# Altium integrated library Infineon_Microcontroller.IntLib: 721 symbols (part 22 of 66)
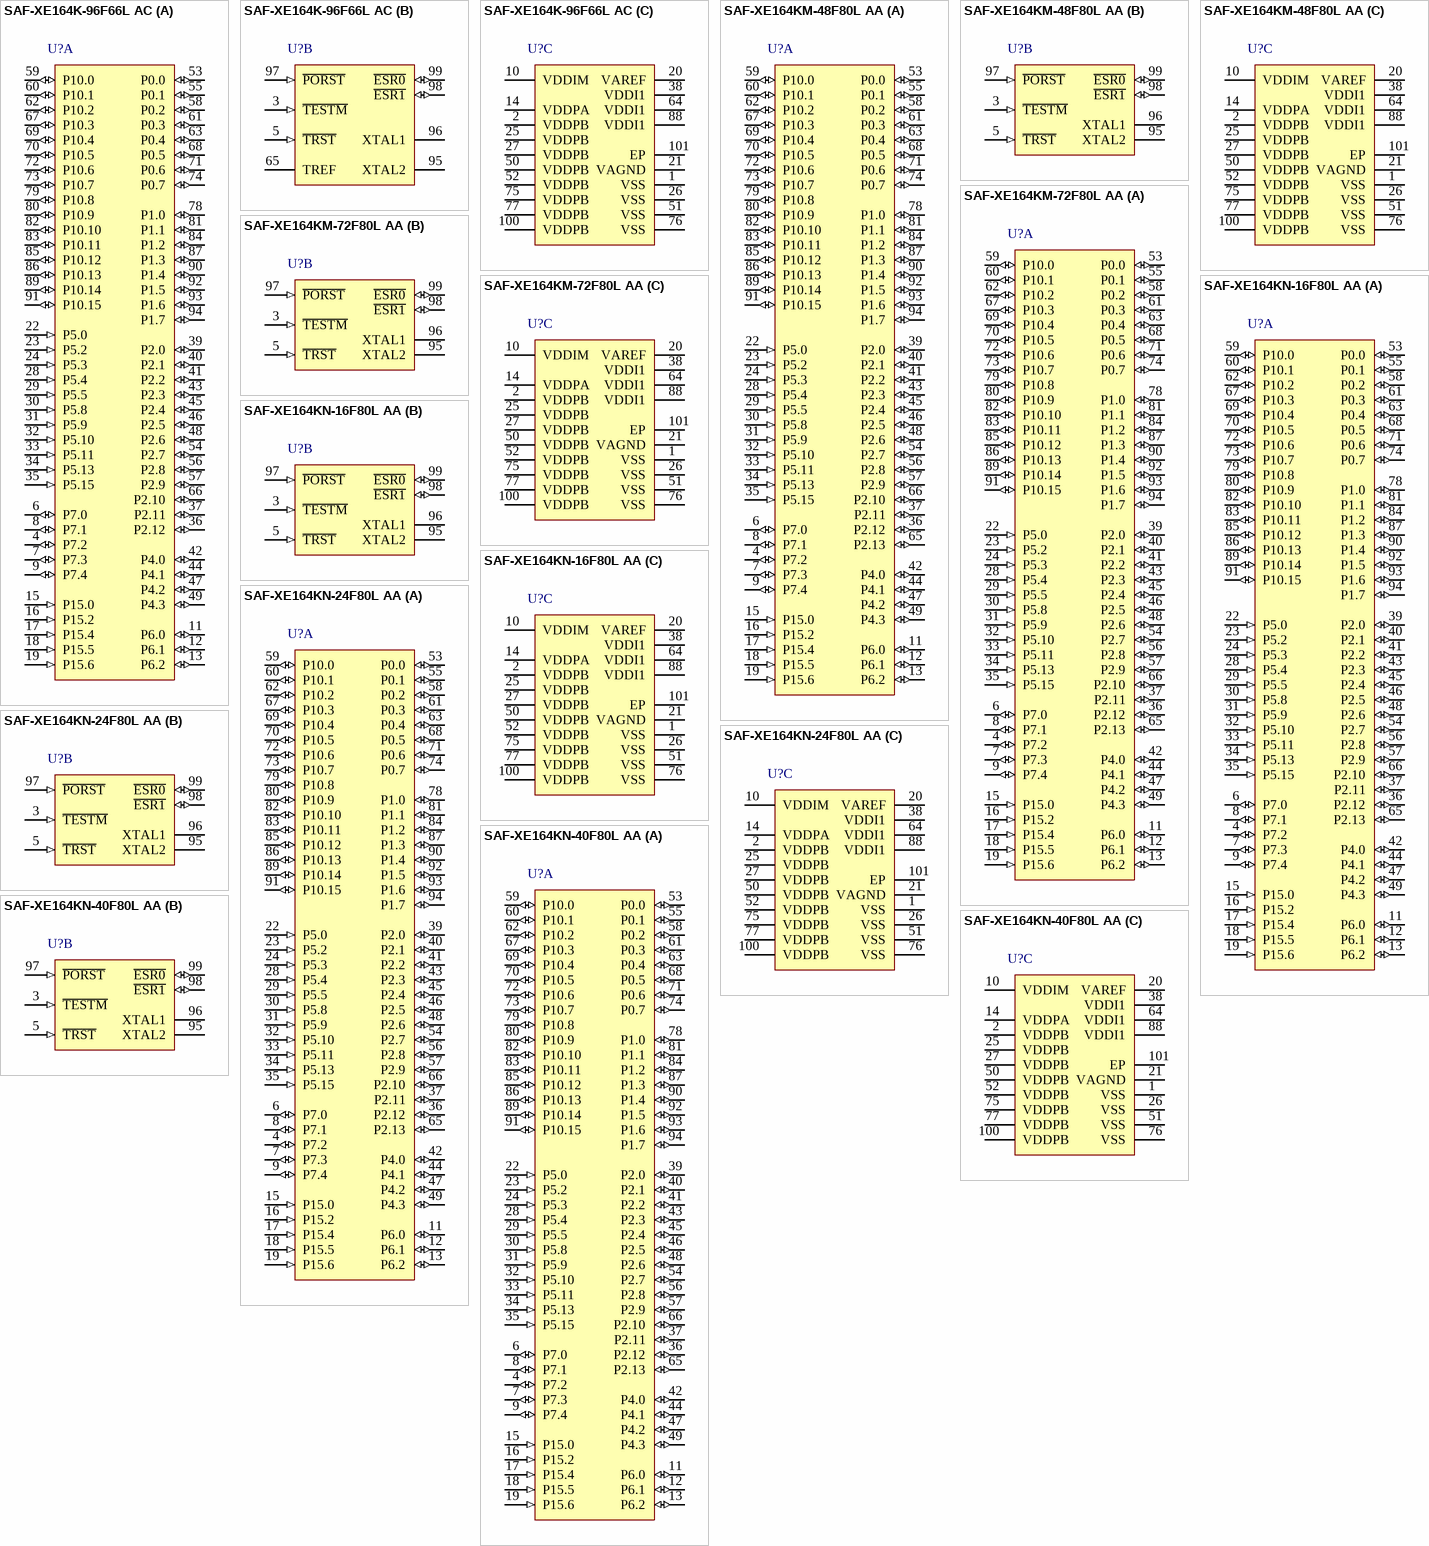
[diagram p139: symbols SAF-XE164K-96F66L AC to SAF-XE164KN-40F80L AA]

## SAF-XE164KN-24F80L AA
designator U?
80 MHz XE166 MCU with 192 KByte Program Memory, 26 KByte SRAM, -40 to 85 degC, PG-LQFP-100-8, Green; Manufacturer: Infineon; PartNumber: SAF-XE164KN-24F80L AA; A / D input lines (incl. FADC): 6+5; CAN Nodes: 0; Green: TRUE; Max Clock Frequency: 80 MHz; Packing: Reel; DatasheetVersion: Rev. 1.4; PackageVersion: Rev. 11, 02/2013; PackageReference: PG-LQFP-100-8; PackageDescription: 100-Pin Plastic (Green) Low Profile Quad Flat Package, 14 x 14 mm Body, 0.5 mm Pitch; Supplier 1: Digi-Key; Supplier Part Number 1: SAF-XE164KN-24F80L AA-ND; Halogen-free: TRUE; Program Memory: 192 KByte; SRAM (incl. Cache): 26 KByte; Mounting Technology: Surface Mount; ComponentLink1Description: Manufacturer URL; ComponentLink1URL: http://www.infineon.com/; ComponentLink2Description: Datasheet; ComponentLink2URL: http://www.infineon.com/dgdl/xe164xn_ds_v1.3_2011_07.pdf?folderId=db3a3043156fd5730115b3a665650d23&fileId=db3a30432313ff5e01235220469362ff; ComponentLink3Description: Package Specification; ComponentLink3URL: http://www.infineon.com/dgdl/xe164xn_ds_v1.4_2013_02.pdf?folderId=db3a3043156fd5730115b3a665650d23&fileId=db3a30432313ff5e01235220469362ff&sId=db3a30443f763e1b013f7661a4e70048
footprint INF-PG-LQFP-100-8-5200X5200TP_N (QFP, 100-Leads, Body 14x14mm, Pitch 0.5mm, Thermal Pad 5.2x5.2mm, IPC Medium Density)
footprint INF-PG-LQFP-100-8-5200X5200TP_L (QFP, 100-Leads, Body 14x14mm, Pitch 0.5mm, Thermal Pad 5.2x5.2mm, IPC High Density)
footprint INF-PG-LQFP-100-8-5200X5200TP_M (QFP, 100-Leads, Body 14x14mm, Pitch 0.5mm, Thermal Pad 5.2x5.2mm, IPC Low Density)
part A pins: 4 P7.2 (io), 6 P7.0 (io), 7 P7.3 (io), 8 P7.1 (io), 9 P7.4 (io), 11 P6.0 (io), 12 P6.1 (io), 13 P6.2 (io), 15 P15.0 (in), 16 P15.2 (in), 17 P15.4 (in), 18 P15.5 (in), 19 P15.6 (in), 22 P5.0 (in), 23 P5.2 (in), 24 P5.3 (in), 28 P5.4 (in), 29 P5.5 (in), 30 P5.8 (in), 31 P5.9 (in), 32 P5.10 (in), 33 P5.11 (in), 34 P5.13 (in), 35 P5.15 (in), 36 P2.12 (io), 37 P2.11 (io), 39 P2.0 (io), 40 P2.1 (io), 41 P2.2 (io), 42 P4.0 (io), 43 P2.3 (io), 44 P4.1 (io), 45 P2.4 (io), 46 P2.5 (io), 47 P4.2 (io), 48 P2.6 (io), 49 P4.3 (io), 53 P0.0 (io), 54 P2.7 (io), 55 P0.1 (io), 56 P2.8 (io), 57 P2.9 (io), 58 P0.2 (io), 59 P10.0 (io), 60 P10.1 (io), 61 P0.3 (io), 62 P10.2 (io), 63 P0.4 (io), 65 P2.13 (io), 66 P2.10 (io), 67 P10.3 (io), 68 P0.5 (io), 69 P10.4 (io), 70 P10.5 (io), 71 P0.6 (io), 72 P10.6 (io), 73 P10.7 (io), 74 P0.7 (io), 78 P1.0 (io), 79 P10.8 (io), 80 P10.9 (io), 81 P1.1 (io), 82 P10.10 (io), 83 P10.11 (io), 84 P1.2 (io), 85 P10.12 (io), 86 P10.13 (io), 87 P1.3 (io), 89 P10.14 (io), 90 P1.4 (io), 91 P10.15 (io), 92 P1.5 (io), 93 P1.6 (io), 94 P1.7 (io)
part B pins: 3 ~{TESTM} (in) "Testmode Enable", 5 ~{TRST} (in) "Test-System Reset Input", 95 XTAL2 "Crystal Oscillator Amplifier Output.", 96 XTAL1, 97 ~{PORST} (in) "Power On Reset Input.", 98 ~{ESR1} (io), 99 ~{ESR0} (io)
part C pins: 1 VSS (power) "Digital Ground.", 2 VDDPB (power) "Digital Pad Supply Voltage for Domain B.", 10 VDDIM (power) "Digital Core Supply Voltage for Domain M", 14 VDDPA (power) "Digital Pad Supply Voltage for Domain A.", 20 VAREF (power) "Reference Voltage for A/D Converters ADC0/1", 21 VAGND (power) "Reference Ground for A/D Converters ADC0/1", 25 VDDPB (power) "Digital Pad Supply Voltage for Domain B.", 26 VSS (power) "Digital Ground.", 27 VDDPB (power) "Digital Pad Supply Voltage for Domain B.", 38 VDDI1 (power) "Digital Core Supply Voltage for Domain 1", 50 VDDPB (power) "Digital Pad Supply Voltage for Domain B.", 51 VSS (power) "Digital Ground.", 52 VDDPB (power) "Digital Pad Supply Voltage for Domain B.", 64 VDDI1 (power) "Digital Core Supply Voltage for Domain 1", 75 VDDPB (power) "Digital Pad Supply Voltage for Domain B.", 76 VSS (power) "Digital Ground.", 77 VDDPB (power) "Digital Pad Supply Voltage for Domain B.", 88 VDDI1 (power) "Digital Core Supply Voltage for Domain 1", 100 VDDPB (power) "Digital Pad Supply Voltage for Domain B.", 101 EP (power)

## SAF-XE164KN-40F80L AA
designator U?
80 MHz XE166 MCU with 320 KByte Program Memory, 34 KByte SRAM, -40 to 85 degC, PG-LQFP-100-8, Green; Manufacturer: Infineon; PartNumber: SAF-XE164KN-40F80L AA; A / D input lines (incl. FADC): 6+5; CAN Nodes: 0; Green: TRUE; Max Clock Frequency: 80 MHz; Packing: Reel; DatasheetVersion: Rev. 1.4; PackageVersion: Rev. 11, 02/2013; PackageReference: PG-LQFP-100-8; PackageDescription: 100-Pin Plastic (Green) Low Profile Quad Flat Package, 14 x 14 mm Body, 0.5 mm Pitch; Supplier 1: Digi-Key; Supplier Part Number 1: SAF-XE164KN-40F80L AA-ND; Halogen-free: TRUE; Program Memory: 320 KByte; SRAM (incl. Cache): 34 KByte; Mounting Technology: Surface Mount; ComponentLink1Description: Manufacturer URL; ComponentLink1URL: http://www.infineon.com/; ComponentLink2Description: Datasheet; ComponentLink2URL: http://www.infineon.com/dgdl/xe164xn_ds_v1.3_2011_07.pdf?folderId=db3a3043156fd5730115b3a665650d23&fileId=db3a30432313ff5e01235220469362ff; ComponentLink3Description: Package Specification; ComponentLink3URL: http://www.infineon.com/dgdl/xe164xn_ds_v1.4_2013_02.pdf?folderId=db3a3043156fd5730115b3a665650d23&fileId=db3a30432313ff5e01235220469362ff&sId=db3a30443f763e1b013f7661a4e70048
footprint INF-PG-LQFP-100-8-5200X5200TP_N (QFP, 100-Leads, Body 14x14mm, Pitch 0.5mm, Thermal Pad 5.2x5.2mm, IPC Medium Density)
footprint INF-PG-LQFP-100-8-5200X5200TP_L (QFP, 100-Leads, Body 14x14mm, Pitch 0.5mm, Thermal Pad 5.2x5.2mm, IPC High Density)
footprint INF-PG-LQFP-100-8-5200X5200TP_M (QFP, 100-Leads, Body 14x14mm, Pitch 0.5mm, Thermal Pad 5.2x5.2mm, IPC Low Density)
part A pins: 4 P7.2 (io), 6 P7.0 (io), 7 P7.3 (io), 8 P7.1 (io), 9 P7.4 (io), 11 P6.0 (io), 12 P6.1 (io), 13 P6.2 (io), 15 P15.0 (in), 16 P15.2 (in), 17 P15.4 (in), 18 P15.5 (in), 19 P15.6 (in), 22 P5.0 (in), 23 P5.2 (in), 24 P5.3 (in), 28 P5.4 (in), 29 P5.5 (in), 30 P5.8 (in), 31 P5.9 (in), 32 P5.10 (in), 33 P5.11 (in), 34 P5.13 (in), 35 P5.15 (in), 36 P2.12 (io), 37 P2.11 (io), 39 P2.0 (io), 40 P2.1 (io), 41 P2.2 (io), 42 P4.0 (io), 43 P2.3 (io), 44 P4.1 (io), 45 P2.4 (io), 46 P2.5 (io), 47 P4.2 (io), 48 P2.6 (io), 49 P4.3 (io), 53 P0.0 (io), 54 P2.7 (io), 55 P0.1 (io), 56 P2.8 (io), 57 P2.9 (io), 58 P0.2 (io), 59 P10.0 (io), 60 P10.1 (io), 61 P0.3 (io), 62 P10.2 (io), 63 P0.4 (io), 65 P2.13 (io), 66 P2.10 (io), 67 P10.3 (io), 68 P0.5 (io), 69 P10.4 (io), 70 P10.5 (io), 71 P0.6 (io), 72 P10.6 (io), 73 P10.7 (io), 74 P0.7 (io), 78 P1.0 (io), 79 P10.8 (io), 80 P10.9 (io), 81 P1.1 (io), 82 P10.10 (io), 83 P10.11 (io), 84 P1.2 (io), 85 P10.12 (io), 86 P10.13 (io), 87 P1.3 (io), 89 P10.14 (io), 90 P1.4 (io), 91 P10.15 (io), 92 P1.5 (io), 93 P1.6 (io), 94 P1.7 (io)
part B pins: 3 ~{TESTM} (in) "Testmode Enable", 5 ~{TRST} (in) "Test-System Reset Input", 95 XTAL2 "Crystal Oscillator Amplifier Output.", 96 XTAL1, 97 ~{PORST} (in) "Power On Reset Input.", 98 ~{ESR1} (io), 99 ~{ESR0} (io)
part C pins: 1 VSS (power) "Digital Ground.", 2 VDDPB (power) "Digital Pad Supply Voltage for Domain B.", 10 VDDIM (power) "Digital Core Supply Voltage for Domain M", 14 VDDPA (power) "Digital Pad Supply Voltage for Domain A.", 20 VAREF (power) "Reference Voltage for A/D Converters ADC0/1", 21 VAGND (power) "Reference Ground for A/D Converters ADC0/1", 25 VDDPB (power) "Digital Pad Supply Voltage for Domain B.", 26 VSS (power) "Digital Ground.", 27 VDDPB (power) "Digital Pad Supply Voltage for Domain B.", 38 VDDI1 (power) "Digital Core Supply Voltage for Domain 1", 50 VDDPB (power) "Digital Pad Supply Voltage for Domain B.", 51 VSS (power) "Digital Ground.", 52 VDDPB (power) "Digital Pad Supply Voltage for Domain B.", 64 VDDI1 (power) "Digital Core Supply Voltage for Domain 1", 75 VDDPB (power) "Digital Pad Supply Voltage for Domain B.", 76 VSS (power) "Digital Ground.", 77 VDDPB (power) "Digital Pad Supply Voltage for Domain B.", 88 VDDI1 (power) "Digital Core Supply Voltage for Domain 1", 100 VDDPB (power) "Digital Pad Supply Voltage for Domain B.", 101 EP (power)

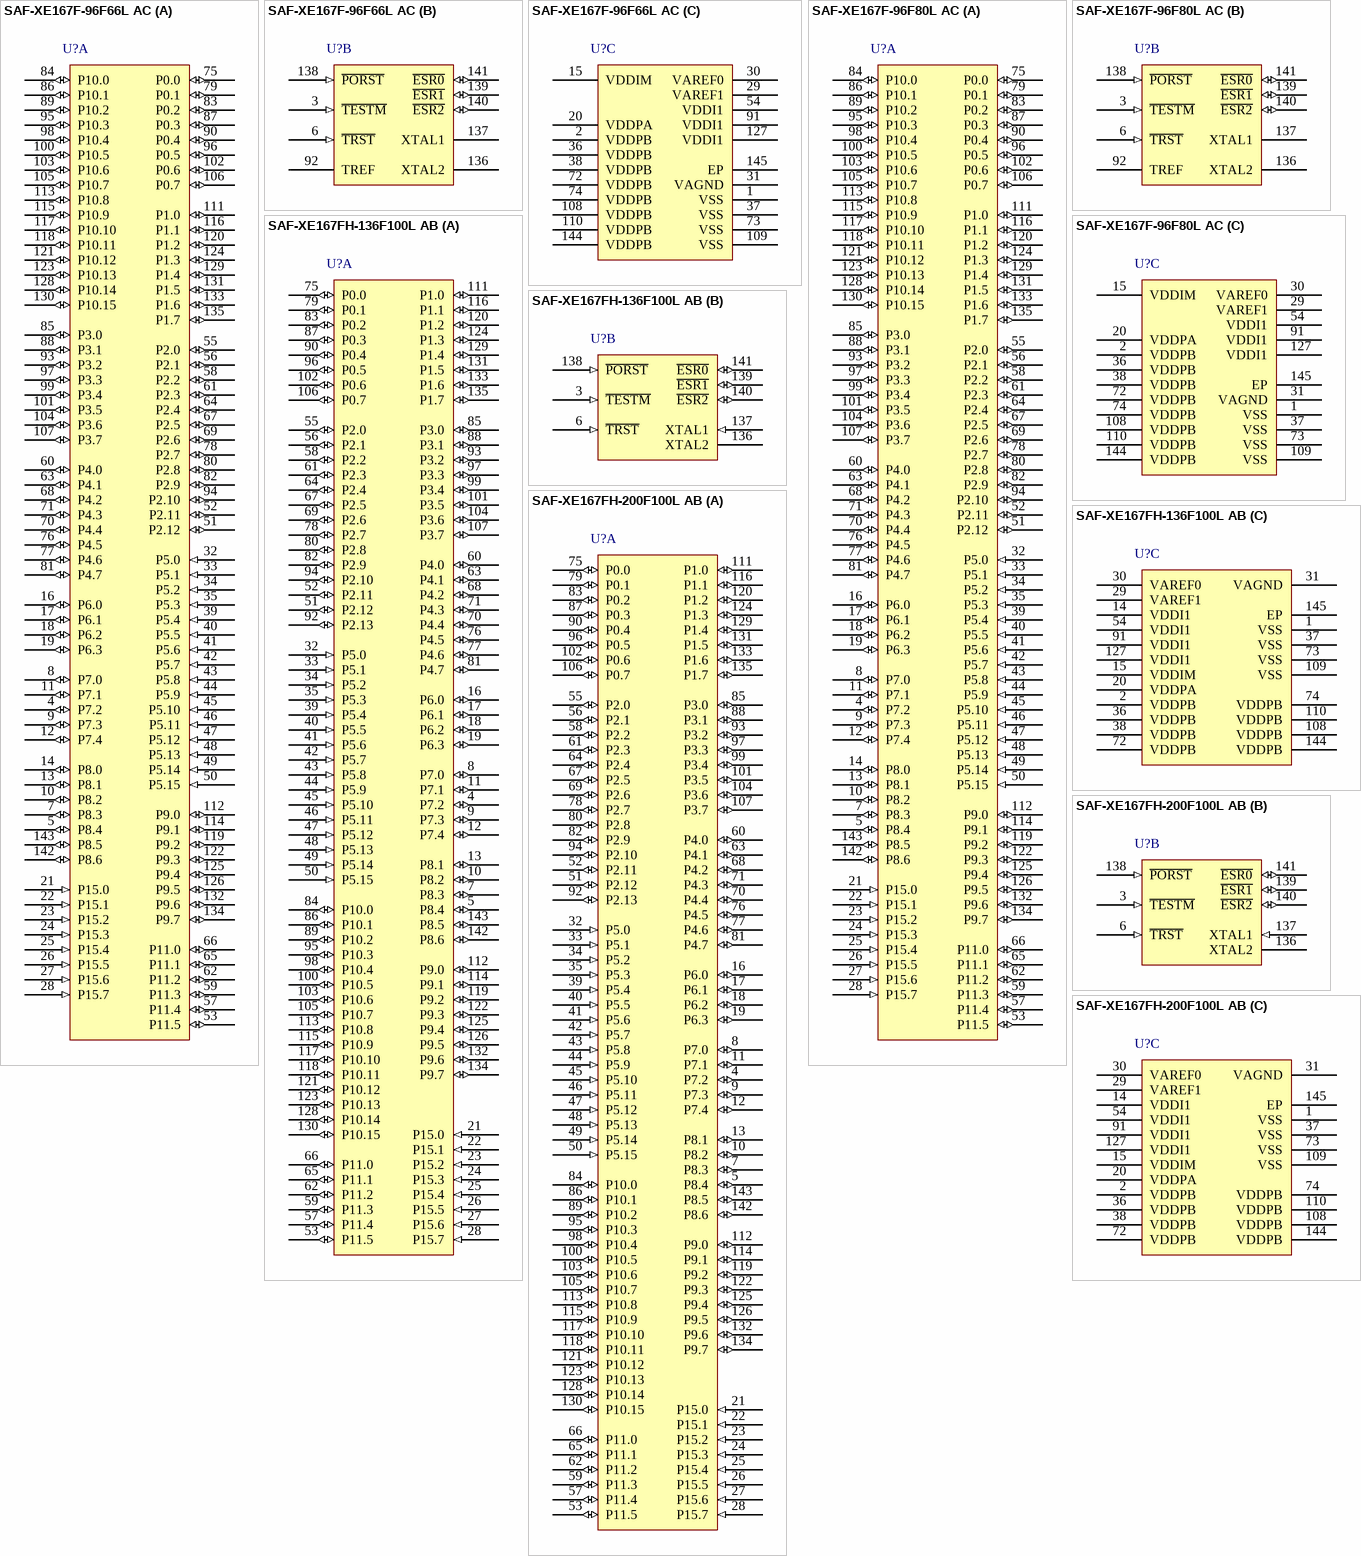
[diagram p35: symbols SAF-XE167F-96F66L AC to SAF-XE167FH-200F100L AB]

## SAF-XE167F-96F66L AC
designator U?
66 MHz XE166 MCU with 768 KByte Program Memory, 82 KByte SRAM, 3 V, 5.5 V, -40 to 85 degC, PG-LQFP-144, Reel, Green; Manufacturer: Infineon; PartNumber: SAF-XE167F-96F66L AC; A / D input lines (incl. FADC): 24; CAN Nodes: 5; Comment/Add. Features: Functional Packing; DatasheetVersion: Rev. 2.1; PackageVersion: V2.1, 08/2008; PackageReference: PG-LQFP-144-4; PackageDescription: 144-Pin Plastic Green Thin Quad Flat Package, Body 20 x 20 mm, Pitch 0.5 mm; Supplier 1: Mouser; Supplier Part Number 1: 726-SAFXE167F96F66LA; Supplier 2: Newark; Supplier Part Number 2: 47W3702; Supplier 3: Farnell; Supplier Part Number 3: 2212042; Supplier 4: Digi-Key; Supplier Part Number 4: SAF-XE167F-96F66LACIN-ND; Mounting Technology: Surface Mount; ComponentLink1Description: Manufacturer URL; ComponentLink1URL: http://www.infineon.com/; ComponentLink2Description: Datasheet; ComponentLink2URL: http://www.infineon.com/dgdl/xe167x_ds_v2.1_2008_08.pdf?folderId=db3a3043156fd5730115b3a665650d23&fileId=db3a3043156fd5730116100ef1b41b52; ComponentLink3Description: Package Specification; ComponentLink3URL: http://www.infineon.com/dgdl/xc228x_ds_v2.1_2008_08.pdf?folderId=db3a304412b407950112b408e8c90004&fileId=db3a304412b407950112b40937b40162&sId=db3a30433d956bc3013d9bbb42cd14dc
footprint INF-PG-LQFP-144-4_N (QFP, 144-Leads, Body 20x20mm, Pitch 0.5mm, Thermal Pad 6.5x6.5mm, IPC Medium Density)
footprint INF-PG-LQFP-144-4_L (QFP, 144-Leads, Body 20x20mm, Pitch 0.5mm, Thermal Pad 6.5x6.5mm, IPC High Density)
footprint INF-PG-LQFP-144-4_M (QFP, 144-Leads, Body 20x20mm, Pitch 0.5mm, Thermal Pad 6.5x6.5mm, IPC Low Density)
part A pins: 4 P7.2 (io), 5 P8.4 (io), 7 P8.3 (io), 8 P7.0 (io), 9 P7.3 (io), 10 P8.2 (io), 11 P7.1 (io), 12 P7.4 (io), 13 P8.1 (io), 14 P8.0 (io), 16 P6.0 (io), 17 P6.1 (io), 18 P6.2 (io), 19 P6.3 (io), 21 P15.0 (in), 22 P15.1 (in), 23 P15.2 (in), 24 P15.3 (in), 25 P15.4 (in), 26 P15.5 (in), 27 P15.6 (in), 28 P15.7 (in), 32 P5.0 (in), 33 P5.1 (in), 34 P5.2 (in), 35 P5.3 (in), 39 P5.4 (in), 40 P5.5 (in), 41 P5.6 (in), 42 P5.7 (in), 43 P5.8 (in), 44 P5.9 (in), 45 P5.10 (in), 46 P5.11 (in), 47 P5.12 (in), 48 P5.13 (in), 49 P5.14 (in), 50 P5.15 (in), 51 P2.12 (io), 52 P2.11 (io), 53 P11.5 (io) "Bit 5 of Port 11, General Purpose Input/Output", 55 P2.0 (io), 56 P2.1 (io), 57 P11.4 (io) "Bit 4 of Port 11, General Purpose Input/Output", 58 P2.2 (io), 59 P11.3 (io) "Bit 3 of Port 11, General Purpose Input/Output", 60 P4.0 (io), 61 P2.3 (io), 62 P11.2 (io), 63 P4.1 (io), 64 P2.4 (io), 65 P11.1 (io), 66 P11.0 (io), 67 P2.5 (io), 68 P4.2 (io), 69 P2.6 (io), 70 P4.4 (io), 71 P4.3 (io), 75 P0.0 (io), 76 P4.5 (io), 77 P4.6 (io), 78 P2.7 (io), 79 P0.1 (io), 80 P2.8 (io), 81 P4.7 (io), 82 P2.9 (io), 83 P0.2 (io), 84 P10.0 (io), 85 P3.0 (io), 86 P10.1 (io), 87 P0.3 (io), 88 P3.1 (io), 89 P10.2 (io), 90 P0.4 (io), 93 P3.2 (io), 94 P2.10 (io), 95 P10.3 (io), 96 P0.5 (io), 97 P3.3 (io), 98 P10.4 (io), 99 P3.4 (io), 100 P10.5 (io), 101 P3.5 (io), 102 P0.6 (io), 103 P10.6 (io), 104 P3.6 (io), 105 P10.7 (io), 106 P0.7 (io), 107 P3.7 (io), 111 P1.0 (io), 112 P9.0 (io), 113 P10.8 (io), 114 P9.1 (io), 115 P10.9 (io), 116 P1.1 (io), 117 P10.10 (io), 118 P10.11 (io), 119 P9.2 (io), 120 P1.2 (io), 121 P10.12 (io), 122 P9.3 (io), 123 P10.13 (io), 124 P1.3 (io), 125 P9.4 (io), 126 P9.5 (io), 128 P10.14 (io), 129 P1.4 (io), 130 P10.15 (io), 131 P1.5 (io), 132 P9.6 (io), 133 P1.6 (io), 134 P9.7 (io), 135 P1.7 (io), 142 P8.6 (io), 143 P8.5 (io)
part B pins: 3 ~{TESTM} (in) "Testmode Enable", 6 ~{TRST} (in) "Test-System Reset Input", 92 TREF "Control Pin for Core Voltage Generation", 136 XTAL2 "Crystal Oscillator Amplifier Output", 137 XTAL1 "Crystal Oscillator Amplifier Input", 138 ~{PORST} (in) "Power On Reset Input", 139 ~{ESR1} (io), 140 ~{ESR2} (io), 141 ~{ESR0} (io)
part C pins: 1 VSS (power) "Digital Ground", 2 VDDPB (power) "Digital Pad Supply Voltage for Domain B", 15 VDDIM (power) "Digital Core Supply Voltage for Domain M", 20 VDDPA (power) "Digital Pad Supply Voltage for Domain A", 29 VAREF1 (power) "Reference Voltage for A/D Converter ADC1", 30 VAREF0 (power) "Reference Voltage for A/D Converter ADC0", 31 VAGND (power) "Reference Ground for A/D Converters ADC0/1", 36 VDDPB (power) "Digital Pad Supply Voltage for Domain B", 37 VSS (power) "Digital Ground", 38 VDDPB (power) "Digital Pad Supply Voltage for Domain B", 54 VDDI1 (power) "Digital Core Supply Voltage for Domain 1", 72 VDDPB (power) "Digital Pad Supply Voltage for Domain B", 73 VSS (power) "Digital Ground", 74 VDDPB (power) "Digital Pad Supply Voltage for Domain B", 91 VDDI1 (power) "Digital Core Supply Voltage for Domain 1", 108 VDDPB (power) "Digital Pad Supply Voltage for Domain B", 109 VSS (power) "Digital Ground", 110 VDDPB (power) "Digital Pad Supply Voltage for Domain B", 127 VDDI1 (power) "Digital Core Supply Voltage for Domain 1", 144 VDDPB (power) "Digital Pad Supply Voltage for Domain B", 145 EP (power)

## SAF-XE167F-96F80L AC
designator U?
80 MHz XE166 MCU with 768 KByte Program Memory, 82 KByte SRAM, 3 V, 5.5 V, -40 to 85 degC, PG-LQFP-144, Reel, Green; Manufacturer: Infineon; PartNumber: SAF-XE167F-96F80L AC; A / D input lines (incl. FADC): 24; CAN Nodes: 5; Comment/Add. Features: Functional Packing; DatasheetVersion: Rev. 2.1; PackageVersion: V2.1, 08/2008; PackageReference: PG-LQFP-144-4; PackageDescription: 144-Pin Plastic Green Thin Quad Flat Package, Body 20 x 20 mm, Pitch 0.5 mm; Supplier 1: Mouser; Supplier Part Number 1: 726-SAFXE167F96F80LA; Supplier 2: Digi-Key; Supplier Part Number 2: SAF-XE167F-96F80L AC-ND; Mounting Technology: Surface Mount; ComponentLink1Description: Manufacturer URL; ComponentLink1URL: http://www.infineon.com/; ComponentLink2Description: Datasheet; ComponentLink2URL: http://www.infineon.com/dgdl/xe167x_ds_v2.1_2008_08.pdf?folderId=db3a3043156fd5730115b3a665650d23&fileId=db3a3043156fd5730116100ef1b41b52; ComponentLink3Description: Package Specification; ComponentLink3URL: http://www.infineon.com/dgdl/xc228x_ds_v2.1_2008_08.pdf?folderId=db3a304412b407950112b408e8c90004&fileId=db3a304412b407950112b40937b40162&sId=db3a30433d956bc3013d9bbb42cd14dc
footprint INF-PG-LQFP-144-4_N (QFP, 144-Leads, Body 20x20mm, Pitch 0.5mm, Thermal Pad 6.5x6.5mm, IPC Medium Density)
footprint INF-PG-LQFP-144-4_L (QFP, 144-Leads, Body 20x20mm, Pitch 0.5mm, Thermal Pad 6.5x6.5mm, IPC High Density)
footprint INF-PG-LQFP-144-4_M (QFP, 144-Leads, Body 20x20mm, Pitch 0.5mm, Thermal Pad 6.5x6.5mm, IPC Low Density)
part A pins: 4 P7.2 (io), 5 P8.4 (io), 7 P8.3 (io), 8 P7.0 (io), 9 P7.3 (io), 10 P8.2 (io), 11 P7.1 (io), 12 P7.4 (io), 13 P8.1 (io), 14 P8.0 (io), 16 P6.0 (io), 17 P6.1 (io), 18 P6.2 (io), 19 P6.3 (io), 21 P15.0 (in), 22 P15.1 (in), 23 P15.2 (in), 24 P15.3 (in), 25 P15.4 (in), 26 P15.5 (in), 27 P15.6 (in), 28 P15.7 (in), 32 P5.0 (in), 33 P5.1 (in), 34 P5.2 (in), 35 P5.3 (in), 39 P5.4 (in), 40 P5.5 (in), 41 P5.6 (in), 42 P5.7 (in), 43 P5.8 (in), 44 P5.9 (in), 45 P5.10 (in), 46 P5.11 (in), 47 P5.12 (in), 48 P5.13 (in), 49 P5.14 (in), 50 P5.15 (in), 51 P2.12 (io), 52 P2.11 (io), 53 P11.5 (io) "Bit 5 of Port 11, General Purpose Input/Output", 55 P2.0 (io), 56 P2.1 (io), 57 P11.4 (io) "Bit 4 of Port 11, General Purpose Input/Output", 58 P2.2 (io), 59 P11.3 (io) "Bit 3 of Port 11, General Purpose Input/Output", 60 P4.0 (io), 61 P2.3 (io), 62 P11.2 (io), 63 P4.1 (io), 64 P2.4 (io), 65 P11.1 (io), 66 P11.0 (io), 67 P2.5 (io), 68 P4.2 (io), 69 P2.6 (io), 70 P4.4 (io), 71 P4.3 (io), 75 P0.0 (io), 76 P4.5 (io), 77 P4.6 (io), 78 P2.7 (io), 79 P0.1 (io), 80 P2.8 (io), 81 P4.7 (io), 82 P2.9 (io), 83 P0.2 (io), 84 P10.0 (io), 85 P3.0 (io), 86 P10.1 (io), 87 P0.3 (io), 88 P3.1 (io), 89 P10.2 (io), 90 P0.4 (io), 93 P3.2 (io), 94 P2.10 (io), 95 P10.3 (io), 96 P0.5 (io), 97 P3.3 (io), 98 P10.4 (io), 99 P3.4 (io), 100 P10.5 (io), 101 P3.5 (io), 102 P0.6 (io), 103 P10.6 (io), 104 P3.6 (io), 105 P10.7 (io), 106 P0.7 (io), 107 P3.7 (io), 111 P1.0 (io), 112 P9.0 (io), 113 P10.8 (io), 114 P9.1 (io), 115 P10.9 (io), 116 P1.1 (io), 117 P10.10 (io), 118 P10.11 (io), 119 P9.2 (io), 120 P1.2 (io), 121 P10.12 (io), 122 P9.3 (io), 123 P10.13 (io), 124 P1.3 (io), 125 P9.4 (io), 126 P9.5 (io), 128 P10.14 (io), 129 P1.4 (io), 130 P10.15 (io), 131 P1.5 (io), 132 P9.6 (io), 133 P1.6 (io), 134 P9.7 (io), 135 P1.7 (io), 142 P8.6 (io), 143 P8.5 (io)
part B pins: 3 ~{TESTM} (in) "Testmode Enable", 6 ~{TRST} (in) "Test-System Reset Input", 92 TREF "Control Pin for Core Voltage Generation", 136 XTAL2 "Crystal Oscillator Amplifier Output", 137 XTAL1 "Crystal Oscillator Amplifier Input", 138 ~{PORST} (in) "Power On Reset Input", 139 ~{ESR1} (io), 140 ~{ESR2} (io), 141 ~{ESR0} (io)
part C pins: 1 VSS (power) "Digital Ground", 2 VDDPB (power) "Digital Pad Supply Voltage for Domain B", 15 VDDIM (power) "Digital Core Supply Voltage for Domain M", 20 VDDPA (power) "Digital Pad Supply Voltage for Domain A", 29 VAREF1 (power) "Reference Voltage for A/D Converter ADC1", 30 VAREF0 (power) "Reference Voltage for A/D Converter ADC0", 31 VAGND (power) "Reference Ground for A/D Converters ADC0/1", 36 VDDPB (power) "Digital Pad Supply Voltage for Domain B", 37 VSS (power) "Digital Ground", 38 VDDPB (power) "Digital Pad Supply Voltage for Domain B", 54 VDDI1 (power) "Digital Core Supply Voltage for Domain 1", 72 VDDPB (power) "Digital Pad Supply Voltage for Domain B", 73 VSS (power) "Digital Ground", 74 VDDPB (power) "Digital Pad Supply Voltage for Domain B", 91 VDDI1 (power) "Digital Core Supply Voltage for Domain 1", 108 VDDPB (power) "Digital Pad Supply Voltage for Domain B", 109 VSS (power) "Digital Ground", 110 VDDPB (power) "Digital Pad Supply Voltage for Domain B", 127 VDDI1 (power) "Digital Core Supply Voltage for Domain 1", 144 VDDPB (power) "Digital Pad Supply Voltage for Domain B", 145 EP (power)

## SAF-XE167FH-136F100L AB
designator U?
100 MHz XE166 MCU with 1,088 KByte Program Memory, 138 KByte SRAM, 3 V, 5.5 V, -40 to 85 degC, PG-LQFP-144, Reel, Green; Manufacturer: Infineon; PartNumber: SAF-XE167FH-136F100L AB; A / D input lines (incl. FADC): 24; CAN Nodes: 6; DatasheetVersion: Rev. 1.3; PackageVersion: V2.1, 07/2011; PackageReference: PG-LQFP-144-13; PackageDescription: 144-Pin Plastic Green Thin Quad Flat Package, Body 20 x 20 mm, Pitch 0.5 mm; Supplier 1: Mouser; Supplier Part Number 1: 726-FXE167FH136F100B; Mounting Technology: Surface Mount; Code_JEDEC: J-STD-020C; ComponentLink1Description: Manufacturer URL; ComponentLink1URL: http://www.infineon.com/; ComponentLink2Description: Datasheet; ComponentLink2URL: http://www.infineon.com/dgdl/xe167xh_ds_v1.3_2011_07.pdf?folderId=db3a3043156fd5730115b3a665650d23&fileId=db3a304328c6bd5c0129121370f609a2; ComponentLink3Description: Package Specification; ComponentLink3URL: http://www.infineon.com/dgdl/xc238xa_ds_v2+1_2011_07.pdf?folderId=db3a304412b407950112b409d4b00386&fileId=db3a3043353fdc16013557e024517b1e&sId=db3a30443d98b7f0013d9b8ad537024b
footprint INF-PG-LQFP-144-13_N (QFP, 144-Leads, Body 20x20mm, Pitch 0.5mm, Thermal Pad 6.5x6.5mm, IPC Medium Density)
footprint INF-PG-LQFP-144-13_L (QFP, 144-Leads, Body 20x20mm, Pitch 0.5mm, Thermal Pad 6.5x6.5mm, IPC High Density)
footprint INF-PG-LQFP-144-13_M (QFP, 144-Leads, Body 20x20mm, Pitch 0.5mm, Thermal Pad 6.5x6.5mm, IPC Low Density)
part A pins: 4 P7.2 (io), 5 P8.4 (io), 7 P8.3 (io), 8 P7.0 (io), 9 P7.3 (io), 10 P8.2 (io), 11 P7.1 (io), 12 P7.4 (io), 13 P8.1 (io), 16 P6.0 (io), 17 P6.1 (io), 18 P6.2 (io), 19 P6.3 (io), 21 P15.0 (in), 22 P15.1 (in), 23 P15.2 (in), 24 P15.3 (in), 25 P15.4 (in), 26 P15.5 (in), 27 P15.6 (in), 28 P15.7 (in), 32 P5.0 (in), 33 P5.1 (in), 34 P5.2 (in), 35 P5.3 (in), 39 P5.4 (in), 40 P5.5 (in), 41 P5.6 (in), 42 P5.7 (in), 43 P5.8 (in), 44 P5.9 (in), 45 P5.10 (in), 46 P5.11 (in), 47 P5.12 (in), 48 P5.13 (in), 49 P5.14 (in), 50 P5.15 (in), 51 P2.12 (io), 52 P2.11 (io), 53 P11.5 (io), 55 P2.0 (io), 56 P2.1 (io), 57 P11.4 (io), 58 P2.2 (io), 59 P11.3 (io), 60 P4.0 (io), 61 P2.3 (io), 62 P11.2 (io), 63 P4.1 (io), 64 P2.4 (io), 65 P11.1 (io), 66 P11.0 (io), 67 P2.5 (io), 68 P4.2 (io), 69 P2.6 (io), 70 P4.4 (io), 71 P4.3 (io), 75 P0.0 (io), 76 P4.5 (io), 77 P4.6 (io), 78 P2.7 (io), 79 P0.1 (io), 80 P2.8 (io), 81 P4.7 (io), 82 P2.9 (io), 83 P0.2 (io), 84 P10.0 (io), 85 P3.0 (io), 86 P10.1 (io), 87 P0.3 (io), 88 P3.1 (io), 89 P10.2 (io), 90 P0.4 (io), 92 P2.13 (io), 93 P3.2 (io), 94 P2.10 (io), 95 P10.3 (io), 96 P0.5 (io), 97 P3.3 (io), 98 P10.4 (io), 99 P3.4 (io), 100 P10.5 (io), 101 P3.5 (io), 102 P0.6 (io), 103 P10.6 (io), 104 P3.6 (io), 105 P10.7 (io), 106 P0.7 (io), 107 P3.7 (io), 111 P1.0 (io), 112 P9.0 (io), 113 P10.8 (io), 114 P9.1 (io), 115 P10.9 (io), 116 P1.1 (io), 117 P10.10 (io), 118 P10.11 (io), 119 P9.2 (io), 120 P1.2 (io), 121 P10.12 (io), 122 P9.3 (io), 123 P10.13 (io), 124 P1.3 (io), 125 P9.4 (io), 126 P9.5 (io), 128 P10.14 (io), 129 P1.4 (io), 130 P10.15 (io), 131 P1.5 (io), 132 P9.6 (io), 133 P1.6 (io), 134 P9.7 (io), 135 P1.7 (io), 142 P8.6 (io), 143 P8.5 (io)
part B pins: 3 ~{TESTM} (in) "Testmode Enable", 6 ~{TRST} (in) "Test-System Reset Input", 136 XTAL2 "Crystal Oscillator Amplifier Output", 137 XTAL1 (in), 138 ~{PORST} (in) "Power On Reset Input", 139 ~{ESR1} (io), 140 ~{ESR2} (io), 141 ~{ESR0} (io)
part C pins: 1 VSS (power) "Digital Ground.", 2 VDDPB (power) "Digital Pad Supply Voltage for Domain B.", 14 VDDI1 (power) "Digital Core Supply Voltage for Domain 1", 15 VDDIM (power) "Digital Core Supply Voltage for Domain M", 20 VDDPA (power) "Digital Pad Supply Voltage for Domain A.", 29 VAREF1 (power) "Reference Voltage for A/D Converter ADC1", 30 VAREF0 (power) "Reference Voltage for A/D Converter ADC0", 31 VAGND (power) "Reference Ground for A/D Converters ADC0/1", 36 VDDPB (power) "Digital Pad Supply Voltage for Domain B.", 37 VSS (power) "Digital Ground.", 38 VDDPB (power) "Digital Pad Supply Voltage for Domain B.", 54 VDDI1 (power) "Digital Core Supply Voltage for Domain 1", 72 VDDPB (power) "Digital Pad Supply Voltage for Domain B.", 73 VSS (power) "Digital Ground.", 74 VDDPB (power) "Digital Pad Supply Voltage for Domain B.", 91 VDDI1 (power) "Digital Core Supply Voltage for Domain 1", 108 VDDPB (power) "Digital Pad Supply Voltage for Domain B.", 109 VSS (power) "Digital Ground.", 110 VDDPB (power) "Digital Pad Supply Voltage for Domain B.", 127 VDDI1 (power) "Digital Core Supply Voltage for Domain 1", 144 VDDPB (power) "Digital Pad Supply Voltage for Domain B.", 145 EP (power)

## SAF-XE167FH-200F100L AB
designator U?
100 MHz XE166 MCU with 1,600 KByte Program Memory, 138 KByte SRAM, 3 V, 5.5 V, -40 to 85 degC, PG-LQFP-144, Reel, Green; Manufacturer: Infineon; PartNumber: SAF-XE167FH-200F100L AB; A / D input lines (incl. FADC): 24; CAN Nodes: 6; DatasheetVersion: Rev. 1.3; PackageVersion: V2.1, 07/2011; PackageReference: PG-LQFP-144-13; PackageDescription: 144-Pin Plastic Green Thin Quad Flat Package, Body 20 x 20 mm, Pitch 0.5 mm; Supplier 1: Mouser; Supplier Part Number 1: 726-FXE167FH200F100B; Mounting Technology: Surface Mount; Code_JEDEC: J-STD-020C; ComponentLink1Description: Manufacturer URL; ComponentLink1URL: http://www.infineon.com/; ComponentLink2Description: Datasheet; ComponentLink2URL: http://www.infineon.com/dgdl/xe167xh_ds_v1.3_2011_07.pdf?folderId=db3a3043156fd5730115b3a665650d23&fileId=db3a304328c6bd5c0129121370f609a2; ComponentLink3Description: Package Specification; ComponentLink3URL: http://www.infineon.com/dgdl/xc238xa_ds_v2+1_2011_07.pdf?folderId=db3a304412b407950112b409d4b00386&fileId=db3a3043353fdc16013557e024517b1e&sId=db3a30443d98b7f0013d9b8ad537024b
footprint INF-PG-LQFP-144-13_N (QFP, 144-Leads, Body 20x20mm, Pitch 0.5mm, Thermal Pad 6.5x6.5mm, IPC Medium Density)
footprint INF-PG-LQFP-144-13_L (QFP, 144-Leads, Body 20x20mm, Pitch 0.5mm, Thermal Pad 6.5x6.5mm, IPC High Density)
footprint INF-PG-LQFP-144-13_M (QFP, 144-Leads, Body 20x20mm, Pitch 0.5mm, Thermal Pad 6.5x6.5mm, IPC Low Density)
part A pins: 4 P7.2 (io), 5 P8.4 (io), 7 P8.3 (io), 8 P7.0 (io), 9 P7.3 (io), 10 P8.2 (io), 11 P7.1 (io), 12 P7.4 (io), 13 P8.1 (io), 16 P6.0 (io), 17 P6.1 (io), 18 P6.2 (io), 19 P6.3 (io), 21 P15.0 (in), 22 P15.1 (in), 23 P15.2 (in), 24 P15.3 (in), 25 P15.4 (in), 26 P15.5 (in), 27 P15.6 (in), 28 P15.7 (in), 32 P5.0 (in), 33 P5.1 (in), 34 P5.2 (in), 35 P5.3 (in), 39 P5.4 (in), 40 P5.5 (in), 41 P5.6 (in), 42 P5.7 (in), 43 P5.8 (in), 44 P5.9 (in), 45 P5.10 (in), 46 P5.11 (in), 47 P5.12 (in), 48 P5.13 (in), 49 P5.14 (in), 50 P5.15 (in), 51 P2.12 (io), 52 P2.11 (io), 53 P11.5 (io), 55 P2.0 (io), 56 P2.1 (io), 57 P11.4 (io), 58 P2.2 (io), 59 P11.3 (io), 60 P4.0 (io), 61 P2.3 (io), 62 P11.2 (io), 63 P4.1 (io), 64 P2.4 (io), 65 P11.1 (io), 66 P11.0 (io), 67 P2.5 (io), 68 P4.2 (io), 69 P2.6 (io), 70 P4.4 (io), 71 P4.3 (io), 75 P0.0 (io), 76 P4.5 (io), 77 P4.6 (io), 78 P2.7 (io), 79 P0.1 (io), 80 P2.8 (io), 81 P4.7 (io), 82 P2.9 (io), 83 P0.2 (io), 84 P10.0 (io), 85 P3.0 (io), 86 P10.1 (io), 87 P0.3 (io), 88 P3.1 (io), 89 P10.2 (io), 90 P0.4 (io), 92 P2.13 (io), 93 P3.2 (io), 94 P2.10 (io), 95 P10.3 (io), 96 P0.5 (io), 97 P3.3 (io), 98 P10.4 (io), 99 P3.4 (io), 100 P10.5 (io), 101 P3.5 (io), 102 P0.6 (io), 103 P10.6 (io), 104 P3.6 (io), 105 P10.7 (io), 106 P0.7 (io), 107 P3.7 (io), 111 P1.0 (io), 112 P9.0 (io), 113 P10.8 (io), 114 P9.1 (io), 115 P10.9 (io), 116 P1.1 (io), 117 P10.10 (io), 118 P10.11 (io), 119 P9.2 (io), 120 P1.2 (io), 121 P10.12 (io), 122 P9.3 (io), 123 P10.13 (io), 124 P1.3 (io), 125 P9.4 (io), 126 P9.5 (io), 128 P10.14 (io), 129 P1.4 (io), 130 P10.15 (io), 131 P1.5 (io), 132 P9.6 (io), 133 P1.6 (io), 134 P9.7 (io), 135 P1.7 (io), 142 P8.6 (io), 143 P8.5 (io)
part B pins: 3 ~{TESTM} (in) "Testmode Enable", 6 ~{TRST} (in) "Test-System Reset Input", 136 XTAL2 "Crystal Oscillator Amplifier Output", 137 XTAL1 (in), 138 ~{PORST} (in) "Power On Reset Input", 139 ~{ESR1} (io), 140 ~{ESR2} (io), 141 ~{ESR0} (io)
part C pins: 1 VSS (power) "Digital Ground.", 2 VDDPB (power) "Digital Pad Supply Voltage for Domain B.", 14 VDDI1 (power) "Digital Core Supply Voltage for Domain 1", 15 VDDIM (power) "Digital Core Supply Voltage for Domain M", 20 VDDPA (power) "Digital Pad Supply Voltage for Domain A.", 29 VAREF1 (power) "Reference Voltage for A/D Converter ADC1", 30 VAREF0 (power) "Reference Voltage for A/D Converter ADC0", 31 VAGND (power) "Reference Ground for A/D Converters ADC0/1", 36 VDDPB (power) "Digital Pad Supply Voltage for Domain B.", 37 VSS (power) "Digital Ground.", 38 VDDPB (power) "Digital Pad Supply Voltage for Domain B.", 54 VDDI1 (power) "Digital Core Supply Voltage for Domain 1", 72 VDDPB (power) "Digital Pad Supply Voltage for Domain B.", 73 VSS (power) "Digital Ground.", 74 VDDPB (power) "Digital Pad Supply Voltage for Domain B.", 91 VDDI1 (power) "Digital Core Supply Voltage for Domain 1", 108 VDDPB (power) "Digital Pad Supply Voltage for Domain B.", 109 VSS (power) "Digital Ground.", 110 VDDPB (power) "Digital Pad Supply Voltage for Domain B.", 127 VDDI1 (power) "Digital Core Supply Voltage for Domain 1", 144 VDDPB (power) "Digital Pad Supply Voltage for Domain B.", 145 EP (power)

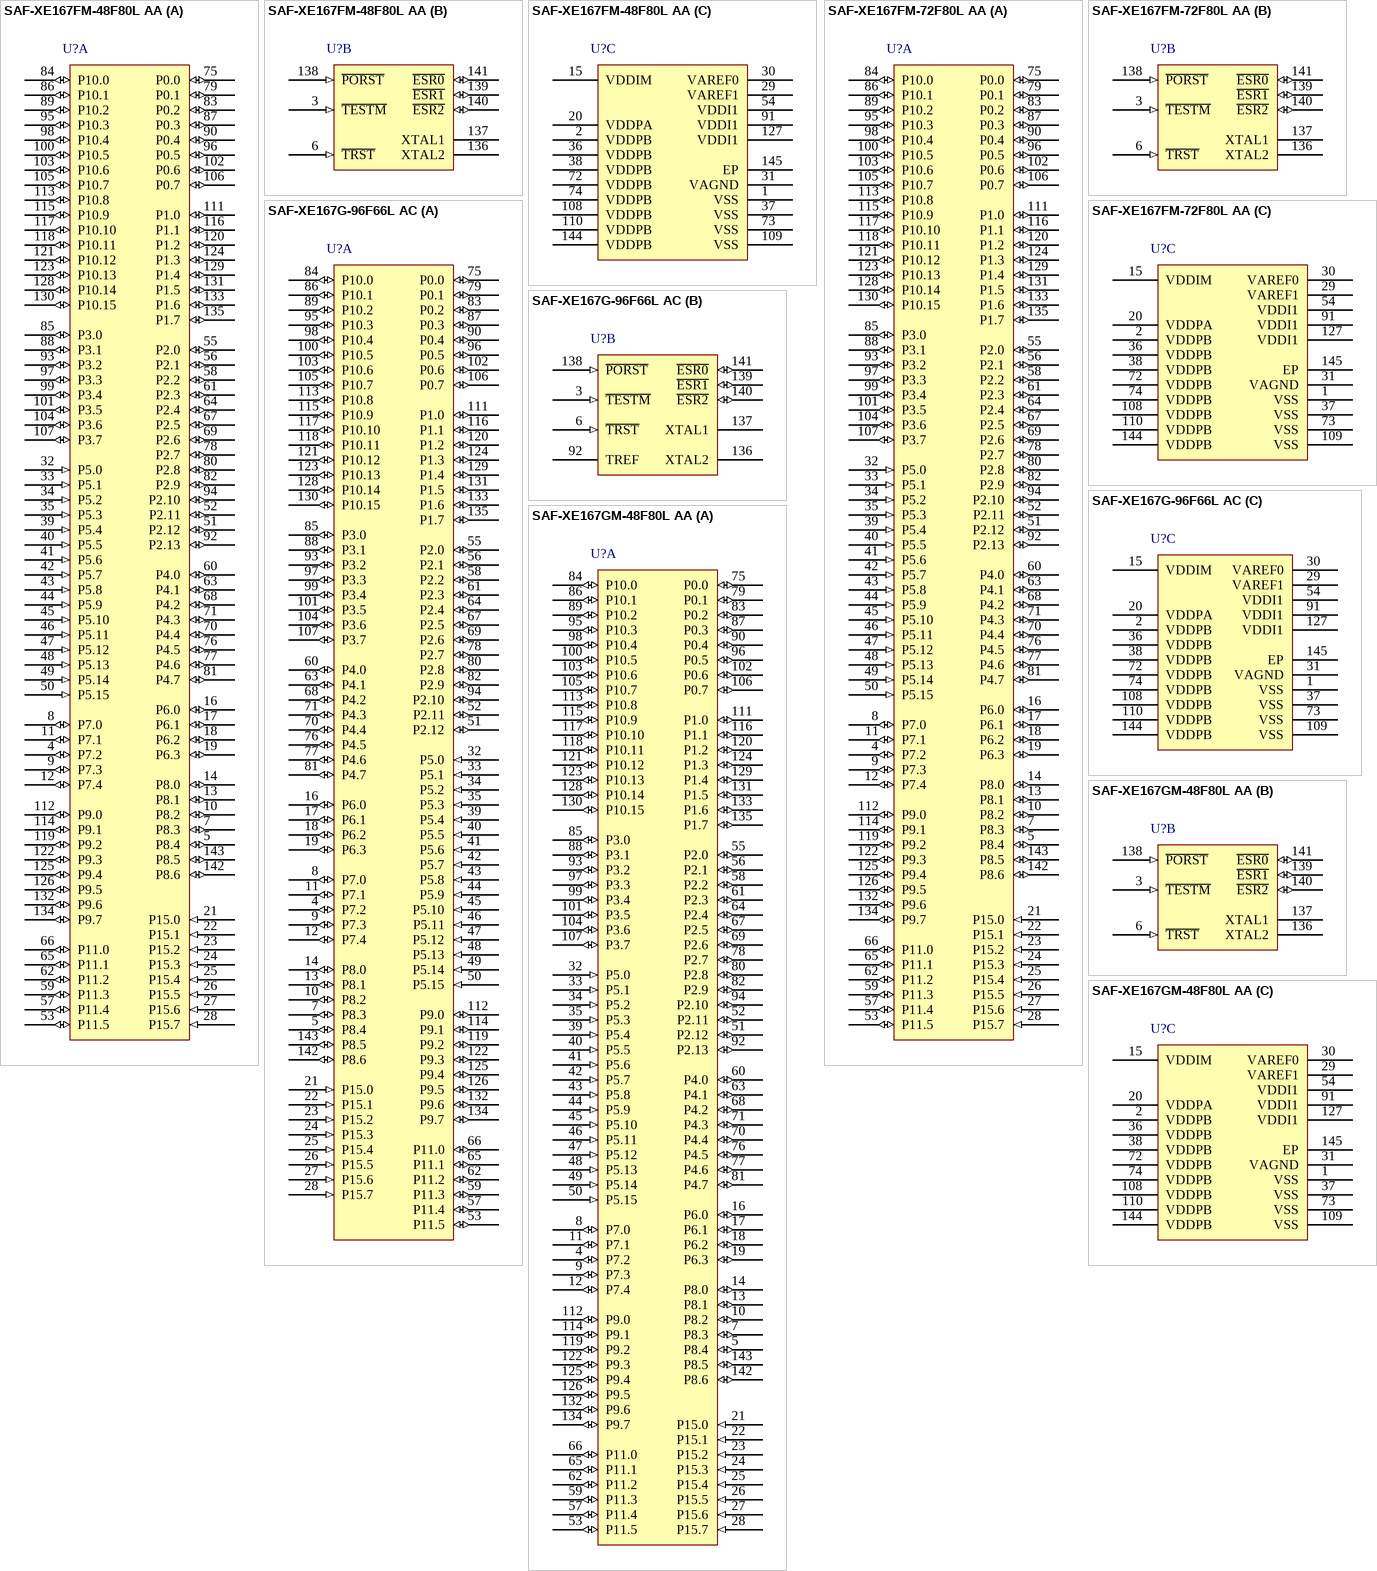
[diagram p36: symbols SAF-XE167FM-48F80L AA to SAF-XE167GM-48F80L AA]

## SAF-XE167FM-48F80L AA
designator U?
80 MHz XE166 MCU with 384 KByte Program Memory, 34 KByte SRAM, 3 V, 5.5 V, -40 to 85 degC, PG-LQFP-144, Reel, Green; Manufacturer: Infineon; PartNumber: SAF-XE167FM-48F80L AA; A / D input lines (incl. FADC): 24; CAN Nodes: 6; Comment/Add. Features: Functional Packing; DatasheetVersion: Rev. 2.1; PackageVersion: V2.1, 07/2011; PackageReference: PG-LQFP-144-13; PackageDescription: 144-Pin Plastic Green Thin Quad Flat Package, Body 20 x 20 mm, Pitch 0.5 mm; Supplier 1: Digi-Key; Supplier Part Number 1: SAF-XE167FM-48F80L AA-ND; Mounting Technology: Surface Mount; Code_JEDEC: J-STD-020C; ComponentLink1Description: Manufacturer URL; ComponentLink1URL: http://www.infineon.com/; ComponentLink2Description: Datasheet; ComponentLink2URL: http://www.infineon.com/dgdl/xe167xm_ds_v2.1_2011_07.pdf?folderId=db3a3043156fd5730115b3a665650d23&fileId=db3a304334c41e910134eb1468cf04e3; ComponentLink3Description: Package Specification; ComponentLink3URL: http://www.infineon.com/dgdl/xc238xa_ds_v2+1_2011_07.pdf?folderId=db3a304412b407950112b409d4b00386&fileId=db3a3043353fdc16013557e024517b1e&sId=db3a30443d98b7f0013d9b8ad537024b
footprint INF-PG-LQFP-144-13_N (QFP, 144-Leads, Body 20x20mm, Pitch 0.5mm, Thermal Pad 6.5x6.5mm, IPC Medium Density)
footprint INF-PG-LQFP-144-13_L (QFP, 144-Leads, Body 20x20mm, Pitch 0.5mm, Thermal Pad 6.5x6.5mm, IPC High Density)
footprint INF-PG-LQFP-144-13_M (QFP, 144-Leads, Body 20x20mm, Pitch 0.5mm, Thermal Pad 6.5x6.5mm, IPC Low Density)
part A pins: 4 P7.2 (io), 5 P8.4 (io), 7 P8.3 (io), 8 P7.0 (io), 9 P7.3 (io), 10 P8.2 (io), 11 P7.1 (io), 12 P7.4 (io), 13 P8.1 (io), 14 P8.0 (io), 16 P6.0 (io), 17 P6.1 (io), 18 P6.2 (io), 19 P6.3 (io), 21 P15.0 (in), 22 P15.1 (in), 23 P15.2 (in), 24 P15.3 (in), 25 P15.4 (in), 26 P15.5 (in), 27 P15.6 (in), 28 P15.7 (in), 32 P5.0 (in), 33 P5.1 (in), 34 P5.2 (in), 35 P5.3 (in), 39 P5.4 (in), 40 P5.5 (in), 41 P5.6 (in), 42 P5.7 (in), 43 P5.8 (in), 44 P5.9 (in), 45 P5.10 (in), 46 P5.11 (in), 47 P5.12 (in), 48 P5.13 (in), 49 P5.14 (in), 50 P5.15 (in), 51 P2.12 (io), 52 P2.11 (io), 53 P11.5 (io), 55 P2.0 (io), 56 P2.1 (io), 57 P11.4 (io), 58 P2.2 (io), 59 P11.3 (io), 60 P4.0 (io), 61 P2.3 (io), 62 P11.2 (io), 63 P4.1 (io), 64 P2.4 (io), 65 P11.1 (io), 66 P11.0 (io), 67 P2.5 (io), 68 P4.2 (io), 69 P2.6 (io), 70 P4.4 (io), 71 P4.3 (io), 75 P0.0 (io), 76 P4.5 (io), 77 P4.6 (io), 78 P2.7 (io), 79 P0.1 (io), 80 P2.8 (io), 81 P4.7 (io), 82 P2.9 (io), 83 P0.2 (io), 84 P10.0 (io), 85 P3.0 (io), 86 P10.1 (io), 87 P0.3 (io), 88 P3.1 (io), 89 P10.2 (io), 90 P0.4 (io), 92 P2.13 (io), 93 P3.2 (io), 94 P2.10 (io), 95 P10.3 (io), 96 P0.5 (io), 97 P3.3 (io), 98 P10.4 (io), 99 P3.4 (io), 100 P10.5 (io), 101 P3.5 (io), 102 P0.6 (io), 103 P10.6 (io), 104 P3.6 (io), 105 P10.7 (io), 106 P0.7 (io), 107 P3.7 (io), 111 P1.0 (io), 112 P9.0 (io), 113 P10.8 (io), 114 P9.1 (io), 115 P10.9 (io), 116 P1.1 (io), 117 P10.10 (io), 118 P10.11 (io), 119 P9.2 (io), 120 P1.2 (io), 121 P10.12 (io), 122 P9.3 (io), 123 P10.13 (io), 124 P1.3 (io), 125 P9.4 (io), 126 P9.5 (io), 128 P10.14 (io), 129 P1.4 (io), 130 P10.15 (io), 131 P1.5 (io), 132 P9.6 (io), 133 P1.6 (io), 134 P9.7 (io), 135 P1.7 (io), 142 P8.6 (io), 143 P8.5 (io)
part B pins: 3 ~{TESTM} (in) "Testmode Enable", 6 ~{TRST} (in) "Test-System Reset Input", 136 XTAL2 "Crystal Oscillator Amplifier Output", 137 XTAL1, 138 ~{PORST} (in) "Power On Reset Input", 139 ~{ESR1} (io), 140 ~{ESR2} (io), 141 ~{ESR0} (io)
part C pins: 1 VSS (power) "Digital Ground.", 2 VDDPB (power) "Digital Pad Supply Voltage for Domain B.", 15 VDDIM (power) "Digital Core Supply Voltage for Domain M", 20 VDDPA (power) "Digital Pad Supply Voltage for Domain A.", 29 VAREF1 (power) "Reference Voltage for A/D Converter ADC1", 30 VAREF0 (power) "Reference Voltage for A/D Converter ADC0", 31 VAGND (power) "Reference Ground for A/D Converters ADC0/1", 36 VDDPB (power) "Digital Pad Supply Voltage for Domain B.", 37 VSS (power) "Digital Ground.", 38 VDDPB (power) "Digital Pad Supply Voltage for Domain B.", 54 VDDI1 (power) "Digital Core Supply Voltage for Domain 1", 72 VDDPB (power) "Digital Pad Supply Voltage for Domain B.", 73 VSS (power) "Digital Ground.", 74 VDDPB (power) "Digital Pad Supply Voltage for Domain B.", 91 VDDI1 (power) "Digital Core Supply Voltage for Domain 1", 108 VDDPB (power) "Digital Pad Supply Voltage for Domain B.", 109 VSS (power) "Digital Ground.", 110 VDDPB (power) "Digital Pad Supply Voltage for Domain B.", 127 VDDI1 (power) "Digital Core Supply Voltage for Domain 1", 144 VDDPB (power) "Digital Pad Supply Voltage for Domain B.", 145 EP (power)

## SAF-XE167FM-72F80L AA
designator U?
80 MHz XE166 MCU with 576 KByte Program Memory, 50 KByte SRAM, 3 V, 5.5 V, -40 to 85 degC, PG-LQFP-144, Reel, Green; Manufacturer: Infineon; PartNumber: SAF-XE167FM-72F80L AA; A / D input lines (incl. FADC): 24; CAN Nodes: 6; Comment/Add. Features: Functional Packing; DatasheetVersion: Rev. 2.1; PackageVersion: V2.1, 07/2011; PackageReference: PG-LQFP-144-13; PackageDescription: 144-Pin Plastic Green Thin Quad Flat Package, Body 20 x 20 mm, Pitch 0.5 mm; Supplier 1: Mouser; Supplier Part Number 1: 726-SAFXE167FM72F80L; Supplier 2: Digi-Key; Supplier Part Number 2: SAF-XE167FM-72F80L AA-ND; Mounting Technology: Surface Mount; Code_JEDEC: J-STD-020C; ComponentLink1Description: Manufacturer URL; ComponentLink1URL: http://www.infineon.com/; ComponentLink2Description: Datasheet; ComponentLink2URL: http://www.infineon.com/dgdl/xe167xm_ds_v2.1_2011_07.pdf?folderId=db3a3043156fd5730115b3a665650d23&fileId=db3a304334c41e910134eb1468cf04e3; ComponentLink3Description: Package Specification; ComponentLink3URL: http://www.infineon.com/dgdl/xc238xa_ds_v2+1_2011_07.pdf?folderId=db3a304412b407950112b409d4b00386&fileId=db3a3043353fdc16013557e024517b1e&sId=db3a30443d98b7f0013d9b8ad537024b
footprint INF-PG-LQFP-144-13_N (QFP, 144-Leads, Body 20x20mm, Pitch 0.5mm, Thermal Pad 6.5x6.5mm, IPC Medium Density)
footprint INF-PG-LQFP-144-13_L (QFP, 144-Leads, Body 20x20mm, Pitch 0.5mm, Thermal Pad 6.5x6.5mm, IPC High Density)
footprint INF-PG-LQFP-144-13_M (QFP, 144-Leads, Body 20x20mm, Pitch 0.5mm, Thermal Pad 6.5x6.5mm, IPC Low Density)
part A pins: 4 P7.2 (io), 5 P8.4 (io), 7 P8.3 (io), 8 P7.0 (io), 9 P7.3 (io), 10 P8.2 (io), 11 P7.1 (io), 12 P7.4 (io), 13 P8.1 (io), 14 P8.0 (io), 16 P6.0 (io), 17 P6.1 (io), 18 P6.2 (io), 19 P6.3 (io), 21 P15.0 (in), 22 P15.1 (in), 23 P15.2 (in), 24 P15.3 (in), 25 P15.4 (in), 26 P15.5 (in), 27 P15.6 (in), 28 P15.7 (in), 32 P5.0 (in), 33 P5.1 (in), 34 P5.2 (in), 35 P5.3 (in), 39 P5.4 (in), 40 P5.5 (in), 41 P5.6 (in), 42 P5.7 (in), 43 P5.8 (in), 44 P5.9 (in), 45 P5.10 (in), 46 P5.11 (in), 47 P5.12 (in), 48 P5.13 (in), 49 P5.14 (in), 50 P5.15 (in), 51 P2.12 (io), 52 P2.11 (io), 53 P11.5 (io), 55 P2.0 (io), 56 P2.1 (io), 57 P11.4 (io), 58 P2.2 (io), 59 P11.3 (io), 60 P4.0 (io), 61 P2.3 (io), 62 P11.2 (io), 63 P4.1 (io), 64 P2.4 (io), 65 P11.1 (io), 66 P11.0 (io), 67 P2.5 (io), 68 P4.2 (io), 69 P2.6 (io), 70 P4.4 (io), 71 P4.3 (io), 75 P0.0 (io), 76 P4.5 (io), 77 P4.6 (io), 78 P2.7 (io), 79 P0.1 (io), 80 P2.8 (io), 81 P4.7 (io), 82 P2.9 (io), 83 P0.2 (io), 84 P10.0 (io), 85 P3.0 (io), 86 P10.1 (io), 87 P0.3 (io), 88 P3.1 (io), 89 P10.2 (io), 90 P0.4 (io), 92 P2.13 (io), 93 P3.2 (io), 94 P2.10 (io), 95 P10.3 (io), 96 P0.5 (io), 97 P3.3 (io), 98 P10.4 (io), 99 P3.4 (io), 100 P10.5 (io), 101 P3.5 (io), 102 P0.6 (io), 103 P10.6 (io), 104 P3.6 (io), 105 P10.7 (io), 106 P0.7 (io), 107 P3.7 (io), 111 P1.0 (io), 112 P9.0 (io), 113 P10.8 (io), 114 P9.1 (io), 115 P10.9 (io), 116 P1.1 (io), 117 P10.10 (io), 118 P10.11 (io), 119 P9.2 (io), 120 P1.2 (io), 121 P10.12 (io), 122 P9.3 (io), 123 P10.13 (io), 124 P1.3 (io), 125 P9.4 (io), 126 P9.5 (io), 128 P10.14 (io), 129 P1.4 (io), 130 P10.15 (io), 131 P1.5 (io), 132 P9.6 (io), 133 P1.6 (io), 134 P9.7 (io), 135 P1.7 (io), 142 P8.6 (io), 143 P8.5 (io)
part B pins: 3 ~{TESTM} (in) "Testmode Enable", 6 ~{TRST} (in) "Test-System Reset Input", 136 XTAL2 "Crystal Oscillator Amplifier Output", 137 XTAL1, 138 ~{PORST} (in) "Power On Reset Input", 139 ~{ESR1} (io), 140 ~{ESR2} (io), 141 ~{ESR0} (io)
part C pins: 1 VSS (power) "Digital Ground.", 2 VDDPB (power) "Digital Pad Supply Voltage for Domain B.", 15 VDDIM (power) "Digital Core Supply Voltage for Domain M", 20 VDDPA (power) "Digital Pad Supply Voltage for Domain A.", 29 VAREF1 (power) "Reference Voltage for A/D Converter ADC1", 30 VAREF0 (power) "Reference Voltage for A/D Converter ADC0", 31 VAGND (power) "Reference Ground for A/D Converters ADC0/1", 36 VDDPB (power) "Digital Pad Supply Voltage for Domain B.", 37 VSS (power) "Digital Ground.", 38 VDDPB (power) "Digital Pad Supply Voltage for Domain B.", 54 VDDI1 (power) "Digital Core Supply Voltage for Domain 1", 72 VDDPB (power) "Digital Pad Supply Voltage for Domain B.", 73 VSS (power) "Digital Ground.", 74 VDDPB (power) "Digital Pad Supply Voltage for Domain B.", 91 VDDI1 (power) "Digital Core Supply Voltage for Domain 1", 108 VDDPB (power) "Digital Pad Supply Voltage for Domain B.", 109 VSS (power) "Digital Ground.", 110 VDDPB (power) "Digital Pad Supply Voltage for Domain B.", 127 VDDI1 (power) "Digital Core Supply Voltage for Domain 1", 144 VDDPB (power) "Digital Pad Supply Voltage for Domain B.", 145 EP (power)

## SAF-XE167G-96F66L AC
designator U?
66 MHz XE166 MCU with 768 KByte Program Memory, 82 KByte SRAM, 3 V, 5.5 V, -40 to 85 degC, PG-LQFP-144, Reel, Green; Manufacturer: Infineon; PartNumber: SAF-XE167G-96F66L AC; A / D input lines (incl. FADC): 16; CAN Nodes: 2; Comment/Add. Features: Functional Packing; DatasheetVersion: Rev. 2.1; PackageVersion: V2.1, 08/2008; PackageReference: PG-LQFP-144-4; PackageDescription: 144-Pin Plastic Green Thin Quad Flat Package, Body 20 x 20 mm, Pitch 0.5 mm; Supplier 1: Mouser; Supplier Part Number 1: 726-SAFXE167G96F66LA; Supplier 2: Digi-Key; Supplier Part Number 2: SAF-XE167G-96F66LACIN-ND; Mounting Technology: Surface Mount; ComponentLink1Description: Manufacturer URL; ComponentLink1URL: http://www.infineon.com/; ComponentLink2Description: Datasheet; ComponentLink2URL: http://www.infineon.com/dgdl/xe167x_ds_v2.1_2008_08.pdf?folderId=db3a3043156fd5730115b3a665650d23&fileId=db3a3043156fd5730116100ef1b41b52; ComponentLink3Description: Package Specification; ComponentLink3URL: http://www.infineon.com/dgdl/xc228x_ds_v2.1_2008_08.pdf?folderId=db3a304412b407950112b408e8c90004&fileId=db3a304412b407950112b40937b40162&sId=db3a30433d956bc3013d9bbb42cd14dc
footprint INF-PG-LQFP-144-4_N (QFP, 144-Leads, Body 20x20mm, Pitch 0.5mm, Thermal Pad 6.5x6.5mm, IPC Medium Density)
footprint INF-PG-LQFP-144-4_L (QFP, 144-Leads, Body 20x20mm, Pitch 0.5mm, Thermal Pad 6.5x6.5mm, IPC High Density)
footprint INF-PG-LQFP-144-4_M (QFP, 144-Leads, Body 20x20mm, Pitch 0.5mm, Thermal Pad 6.5x6.5mm, IPC Low Density)
part A pins: 4 P7.2 (io), 5 P8.4 (io), 7 P8.3 (io), 8 P7.0 (io), 9 P7.3 (io), 10 P8.2 (io), 11 P7.1 (io), 12 P7.4 (io), 13 P8.1 (io), 14 P8.0 (io), 16 P6.0 (io), 17 P6.1 (io), 18 P6.2 (io), 19 P6.3 (io), 21 P15.0 (in), 22 P15.1 (in), 23 P15.2 (in), 24 P15.3 (in), 25 P15.4 (in), 26 P15.5 (in), 27 P15.6 (in), 28 P15.7 (in), 32 P5.0 (in), 33 P5.1 (in), 34 P5.2 (in), 35 P5.3 (in), 39 P5.4 (in), 40 P5.5 (in), 41 P5.6 (in), 42 P5.7 (in), 43 P5.8 (in), 44 P5.9 (in), 45 P5.10 (in), 46 P5.11 (in), 47 P5.12 (in), 48 P5.13 (in), 49 P5.14 (in), 50 P5.15 (in), 51 P2.12 (io), 52 P2.11 (io), 53 P11.5 (io) "Bit 5 of Port 11, General Purpose Input/Output", 55 P2.0 (io), 56 P2.1 (io), 57 P11.4 (io) "Bit 4 of Port 11, General Purpose Input/Output", 58 P2.2 (io), 59 P11.3 (io) "Bit 3 of Port 11, General Purpose Input/Output", 60 P4.0 (io), 61 P2.3 (io), 62 P11.2 (io), 63 P4.1 (io), 64 P2.4 (io), 65 P11.1 (io), 66 P11.0 (io), 67 P2.5 (io), 68 P4.2 (io), 69 P2.6 (io), 70 P4.4 (io), 71 P4.3 (io), 75 P0.0 (io), 76 P4.5 (io), 77 P4.6 (io), 78 P2.7 (io), 79 P0.1 (io), 80 P2.8 (io), 81 P4.7 (io), 82 P2.9 (io), 83 P0.2 (io), 84 P10.0 (io), 85 P3.0 (io), 86 P10.1 (io), 87 P0.3 (io), 88 P3.1 (io), 89 P10.2 (io), 90 P0.4 (io), 93 P3.2 (io), 94 P2.10 (io), 95 P10.3 (io), 96 P0.5 (io), 97 P3.3 (io), 98 P10.4 (io), 99 P3.4 (io), 100 P10.5 (io), 101 P3.5 (io), 102 P0.6 (io), 103 P10.6 (io), 104 P3.6 (io), 105 P10.7 (io), 106 P0.7 (io), 107 P3.7 (io), 111 P1.0 (io), 112 P9.0 (io), 113 P10.8 (io), 114 P9.1 (io), 115 P10.9 (io), 116 P1.1 (io), 117 P10.10 (io), 118 P10.11 (io), 119 P9.2 (io), 120 P1.2 (io), 121 P10.12 (io), 122 P9.3 (io), 123 P10.13 (io), 124 P1.3 (io), 125 P9.4 (io), 126 P9.5 (io), 128 P10.14 (io), 129 P1.4 (io), 130 P10.15 (io), 131 P1.5 (io), 132 P9.6 (io), 133 P1.6 (io), 134 P9.7 (io), 135 P1.7 (io), 142 P8.6 (io), 143 P8.5 (io)
part B pins: 3 ~{TESTM} (in) "Testmode Enable", 6 ~{TRST} (in) "Test-System Reset Input", 92 TREF "Control Pin for Core Voltage Generation", 136 XTAL2 "Crystal Oscillator Amplifier Output", 137 XTAL1 "Crystal Oscillator Amplifier Input", 138 ~{PORST} (in) "Power On Reset Input", 139 ~{ESR1} (io), 140 ~{ESR2} (io), 141 ~{ESR0} (io)
part C pins: 1 VSS (power) "Digital Ground", 2 VDDPB (power) "Digital Pad Supply Voltage for Domain B", 15 VDDIM (power) "Digital Core Supply Voltage for Domain M", 20 VDDPA (power) "Digital Pad Supply Voltage for Domain A", 29 VAREF1 (power) "Reference Voltage for A/D Converter ADC1", 30 VAREF0 (power) "Reference Voltage for A/D Converter ADC0", 31 VAGND (power) "Reference Ground for A/D Converters ADC0/1", 36 VDDPB (power) "Digital Pad Supply Voltage for Domain B", 37 VSS (power) "Digital Ground", 38 VDDPB (power) "Digital Pad Supply Voltage for Domain B", 54 VDDI1 (power) "Digital Core Supply Voltage for Domain 1", 72 VDDPB (power) "Digital Pad Supply Voltage for Domain B", 73 VSS (power) "Digital Ground", 74 VDDPB (power) "Digital Pad Supply Voltage for Domain B", 91 VDDI1 (power) "Digital Core Supply Voltage for Domain 1", 108 VDDPB (power) "Digital Pad Supply Voltage for Domain B", 109 VSS (power) "Digital Ground", 110 VDDPB (power) "Digital Pad Supply Voltage for Domain B", 127 VDDI1 (power) "Digital Core Supply Voltage for Domain 1", 144 VDDPB (power) "Digital Pad Supply Voltage for Domain B", 145 EP (power)

## SAF-XE167GM-48F80L AA
designator U?
80 MHz XE166 MCU with 384 KByte Program Memory, 34 KByte SRAM, 3 V, 5.5 V, -40 to 85 degC, PG-LQFP-144, Reel, Green; Manufacturer: Infineon; PartNumber: SAF-XE167GM-48F80L AA; A / D input lines (incl. FADC): 16; CAN Nodes: 2; Comment/Add. Features: Functional Packing; DatasheetVersion: Rev. 2.1; PackageVersion: V2.1, 07/2011; PackageReference: PG-LQFP-144-13; PackageDescription: 144-Pin Plastic Green Thin Quad Flat Package, Body 20 x 20 mm, Pitch 0.5 mm; Supplier 1: Digi-Key; Supplier Part Number 1: SAF-XE167GM-48F80L AA-ND; Mounting Technology: Surface Mount; Code_JEDEC: J-STD-020C; ComponentLink1Description: Manufacturer URL; ComponentLink1URL: http://www.infineon.com/; ComponentLink2Description: Datasheet; ComponentLink2URL: http://www.infineon.com/dgdl/xe167xm_ds_v2.1_2011_07.pdf?folderId=db3a3043156fd5730115b3a665650d23&fileId=db3a304334c41e910134eb1468cf04e3; ComponentLink3Description: Package Specification; ComponentLink3URL: http://www.infineon.com/dgdl/xc238xa_ds_v2+1_2011_07.pdf?folderId=db3a304412b407950112b409d4b00386&fileId=db3a3043353fdc16013557e024517b1e&sId=db3a30443d98b7f0013d9b8ad537024b
footprint INF-PG-LQFP-144-13_N (QFP, 144-Leads, Body 20x20mm, Pitch 0.5mm, Thermal Pad 6.5x6.5mm, IPC Medium Density)
footprint INF-PG-LQFP-144-13_L (QFP, 144-Leads, Body 20x20mm, Pitch 0.5mm, Thermal Pad 6.5x6.5mm, IPC High Density)
footprint INF-PG-LQFP-144-13_M (QFP, 144-Leads, Body 20x20mm, Pitch 0.5mm, Thermal Pad 6.5x6.5mm, IPC Low Density)
part A pins: 4 P7.2 (io), 5 P8.4 (io), 7 P8.3 (io), 8 P7.0 (io), 9 P7.3 (io), 10 P8.2 (io), 11 P7.1 (io), 12 P7.4 (io), 13 P8.1 (io), 14 P8.0 (io), 16 P6.0 (io), 17 P6.1 (io), 18 P6.2 (io), 19 P6.3 (io), 21 P15.0 (in), 22 P15.1 (in), 23 P15.2 (in), 24 P15.3 (in), 25 P15.4 (in), 26 P15.5 (in), 27 P15.6 (in), 28 P15.7 (in), 32 P5.0 (in), 33 P5.1 (in), 34 P5.2 (in), 35 P5.3 (in), 39 P5.4 (in), 40 P5.5 (in), 41 P5.6 (in), 42 P5.7 (in), 43 P5.8 (in), 44 P5.9 (in), 45 P5.10 (in), 46 P5.11 (in), 47 P5.12 (in), 48 P5.13 (in), 49 P5.14 (in), 50 P5.15 (in), 51 P2.12 (io), 52 P2.11 (io), 53 P11.5 (io), 55 P2.0 (io), 56 P2.1 (io), 57 P11.4 (io), 58 P2.2 (io), 59 P11.3 (io), 60 P4.0 (io), 61 P2.3 (io), 62 P11.2 (io), 63 P4.1 (io), 64 P2.4 (io), 65 P11.1 (io), 66 P11.0 (io), 67 P2.5 (io), 68 P4.2 (io), 69 P2.6 (io), 70 P4.4 (io), 71 P4.3 (io), 75 P0.0 (io), 76 P4.5 (io), 77 P4.6 (io), 78 P2.7 (io), 79 P0.1 (io), 80 P2.8 (io), 81 P4.7 (io), 82 P2.9 (io), 83 P0.2 (io), 84 P10.0 (io), 85 P3.0 (io), 86 P10.1 (io), 87 P0.3 (io), 88 P3.1 (io), 89 P10.2 (io), 90 P0.4 (io), 92 P2.13 (io), 93 P3.2 (io), 94 P2.10 (io), 95 P10.3 (io), 96 P0.5 (io), 97 P3.3 (io), 98 P10.4 (io), 99 P3.4 (io), 100 P10.5 (io), 101 P3.5 (io), 102 P0.6 (io), 103 P10.6 (io), 104 P3.6 (io), 105 P10.7 (io), 106 P0.7 (io), 107 P3.7 (io), 111 P1.0 (io), 112 P9.0 (io), 113 P10.8 (io), 114 P9.1 (io), 115 P10.9 (io), 116 P1.1 (io), 117 P10.10 (io), 118 P10.11 (io), 119 P9.2 (io), 120 P1.2 (io), 121 P10.12 (io), 122 P9.3 (io), 123 P10.13 (io), 124 P1.3 (io), 125 P9.4 (io), 126 P9.5 (io), 128 P10.14 (io), 129 P1.4 (io), 130 P10.15 (io), 131 P1.5 (io), 132 P9.6 (io), 133 P1.6 (io), 134 P9.7 (io), 135 P1.7 (io), 142 P8.6 (io), 143 P8.5 (io)
part B pins: 3 ~{TESTM} (in) "Testmode Enable", 6 ~{TRST} (in) "Test-System Reset Input", 136 XTAL2 "Crystal Oscillator Amplifier Output", 137 XTAL1, 138 ~{PORST} (in) "Power On Reset Input", 139 ~{ESR1} (io), 140 ~{ESR2} (io), 141 ~{ESR0} (io)
part C pins: 1 VSS (power) "Digital Ground.", 2 VDDPB (power) "Digital Pad Supply Voltage for Domain B.", 15 VDDIM (power) "Digital Core Supply Voltage for Domain M", 20 VDDPA (power) "Digital Pad Supply Voltage for Domain A.", 29 VAREF1 (power) "Reference Voltage for A/D Converter ADC1", 30 VAREF0 (power) "Reference Voltage for A/D Converter ADC0", 31 VAGND (power) "Reference Ground for A/D Converters ADC0/1", 36 VDDPB (power) "Digital Pad Supply Voltage for Domain B.", 37 VSS (power) "Digital Ground.", 38 VDDPB (power) "Digital Pad Supply Voltage for Domain B.", 54 VDDI1 (power) "Digital Core Supply Voltage for Domain 1", 72 VDDPB (power) "Digital Pad Supply Voltage for Domain B.", 73 VSS (power) "Digital Ground.", 74 VDDPB (power) "Digital Pad Supply Voltage for Domain B.", 91 VDDI1 (power) "Digital Core Supply Voltage for Domain 1", 108 VDDPB (power) "Digital Pad Supply Voltage for Domain B.", 109 VSS (power) "Digital Ground.", 110 VDDPB (power) "Digital Pad Supply Voltage for Domain B.", 127 VDDI1 (power) "Digital Core Supply Voltage for Domain 1", 144 VDDPB (power) "Digital Pad Supply Voltage for Domain B.", 145 EP (power)

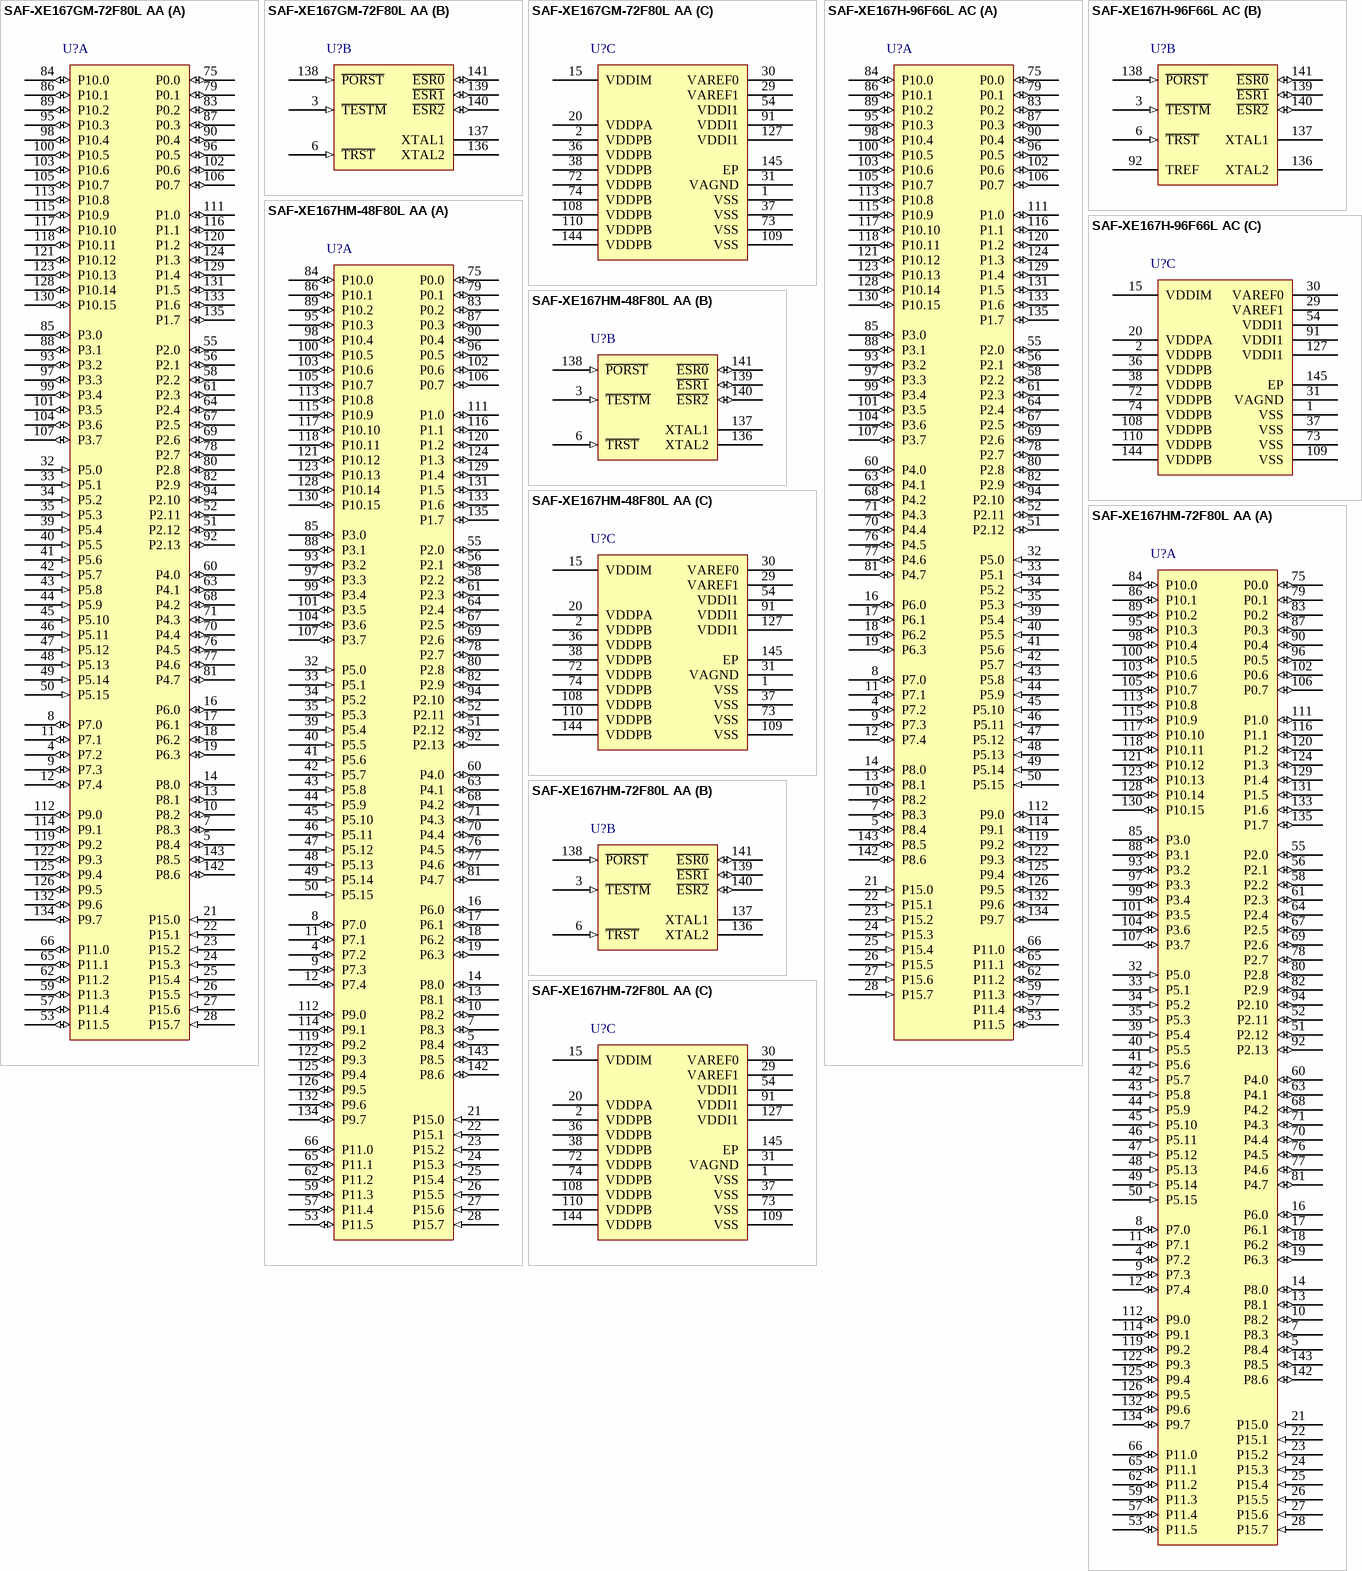
[diagram p37: symbols SAF-XE167GM-72F80L AA to SAF-XE167HM-72F80L AA]